# Altium footprint library TP-1P.PcbLib: 1 footprints
Each footprint in its own frame and in the unit in brackets; x right, y up, seen from the top. Pads: shape width x height; smd on the part's side, far side on the other; paste and mask are expansions set on the pad; w line width, h text height; cw(c..) or ccw(c..) is an arc to the next point about the centre after c.
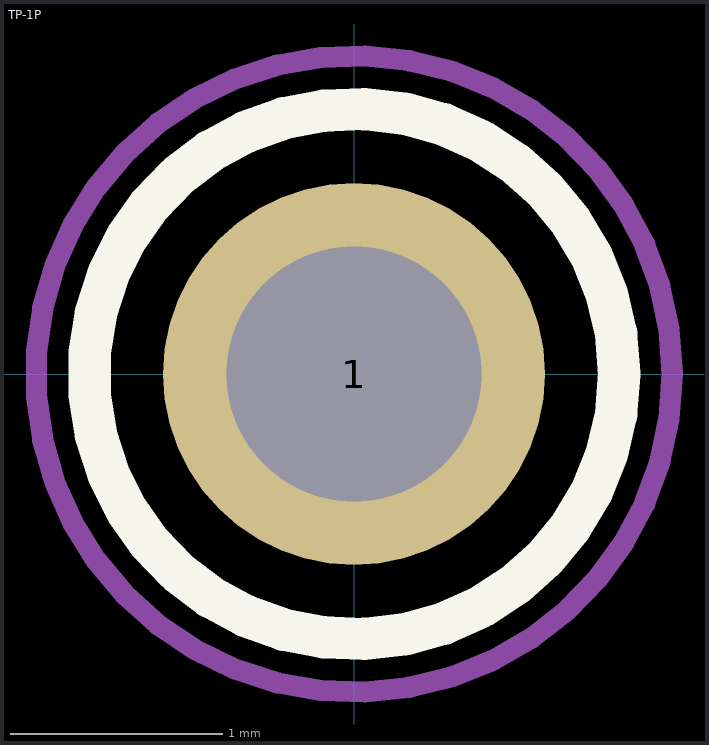
[diagram p0: the footprint, top view; thin cyan lines are the x and y axes]

## TP-1P [mm] "Testpoint"
pads (1):
  round 1.8 hole 1.2: 1(0,0)
Top Overlay:
  circle w0.2: c0,0 r1.25
Mechanical 13:
  circle w0.1: c0,0 r1.25
Mechanical 15:
  circle w0.1: c0,0 r1.5
3D body: height 4.89, standoff -3.07, extent -1.27,-1.27 1.27,1.27